# Altium integrated library Infineon RF & Wireless Control.IntLib: 329 symbols (part 6 of 11)
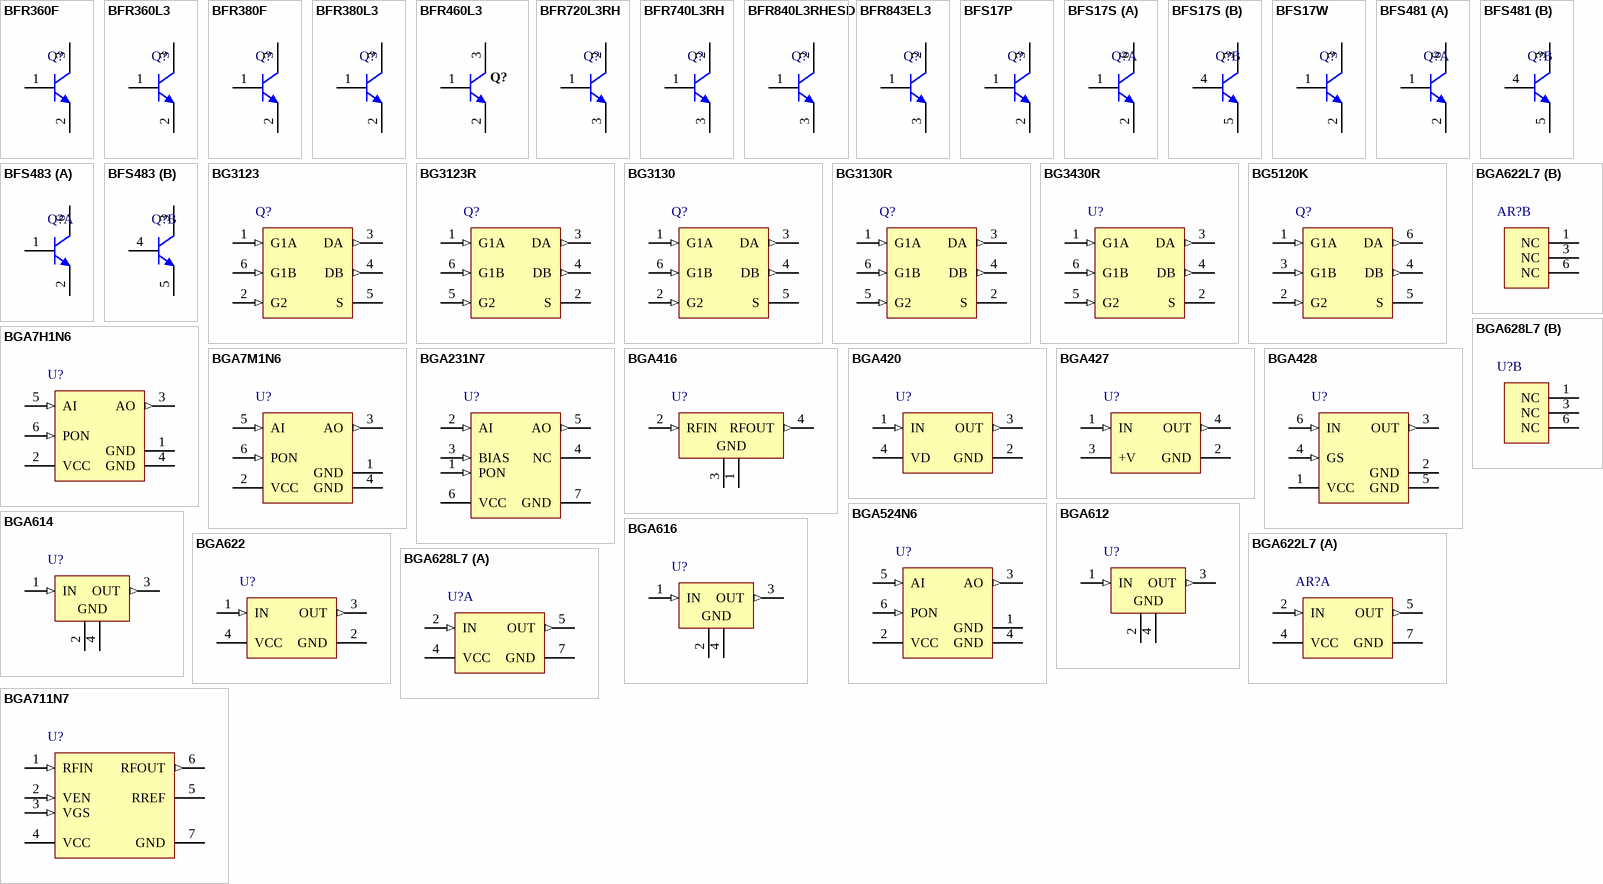
[diagram p14: symbols BFR360F to BGA711N7]

## BFR360F
designator Q?
NPN Silicon RF Transistor, TSFP-3-1, Reel, Green; Manufacturer: Infineon; PartNumber: BFR360F; Green: TRUE; VCEO (max): 6 V; PackageReference: TSFP-3-1; PackageDescription: 3-Pin Thin Small Flat Package, 0.8 x 1.2 mm Body, 0.4 mm Pitch; Supplier 1: Mouser; Supplier Part Number 1: N/A; Halogen-free: TRUE; Mounting Technology: Surface Mount; ComponentLink1Description: Manufacturer URL; ComponentLink1URL: http://www.infineon.com/; ComponentLink2Description: Datasheet; ComponentLink2URL: http://www.infineon.com/dgdl/bfr360f.pdf?folderId=db3a30431400ef68011425b1354605c1&fileId=db3a30431400ef68011426bc17c4067f&location=en.Products.RF.RF_Transistors_.Low_Noise_Si_Transistors_up_to_2_5_GHz.DATASHEET.bfr360f.pdf; ComponentLink3Description: Package Specification; ComponentLink3URL: http://www.infineon.com/dgdl/TSFP-3-1%2C-2-Package_Overview.pdf?folderId=db3a30431936bc4b0119538cdcb03d2d&fileId=db3a30431936bc4b0119539929863d46
footprint INF-TSFP-3-1_N (SOT23, 3-Leads, Body 1.2x0.8 mm, Pitch 0.4 mm, IPC Medium Density)
footprint INF-TSFP-3-1_L (SOT23, 3-Leads, Body 1.2x0.8 mm, Pitch 0.4 mm, IPC High Density)
footprint INF-TSFP-3-1_M (SOT23, 3-Leads, Body 1.2x0.8 mm, Pitch 0.4 mm, IPC Low Density)
pins: 1 B, 2 E, 3 C

## BFR360L3
designator Q?
NPN Silicon RF Transistor, 6 V VCEO, 35 mA IC, 16 dB Gmax, TSLP-3-1, Green; Manufacturer: Infineon; PartNumber: BFR360L3; Gmax (typ): 16 dB; Green: yes; Group: High gain up to 2.5 GHz, flatlead TSFP package respectively TSLP package for modules; IC (max): 35 mA; NFmin (typ): 1 dB; Ptot (max): 210 mW; VCEO (max): 6 V; DatasheetVersion: Mar-2007; PackageReference: TSLP-3-1; PackageDescription: 3-Pin Thin Small Leadless Package, 0.6 x 1 mm Body; Supplier 1: Mouser; Supplier Part Number 1: N/A; Halogen-free: yes; Mounting Technology: Surface Mount; ComponentLink1Description: Manufacturer URL; ComponentLink1URL: http://www.infineon.com/; ComponentLink2Description: Datasheet; ComponentLink2URL: http://www.infineon.com/dgdl/bfr360l3.pdf?folderId=db3a30431400ef68011425b2dfaf05c6&fileId=db3a30431400ef6801142724646906e4&location=en.Products.RF.RF_Transistors_.Low_Noise_Si_Transistors_up_to_2_5_GHz.DATASHEET.bfr360l3.pdf; ComponentLink3Description: Package Specification; ComponentLink3URL: http://www.infineon.com/dgdl/TSLP-3-1-Package_Overview.pdf?folderId=db3a30431936bc4b011957434db737d2&fileId=db3a30431936bc4b0119577ed2783818
footprint INF-TSLP-3-1_V (TSLP, 3-Leads, Body 0.6x1 mm)
pins: 1 B, 2 E, 3 C

## BFR380F
designator Q?
NPN Silicon RF Transistor, 6 V VCEO, 80 mA IC, 13.5 dB Gmax, TSFP-3-1, Green; Manufacturer: Infineon; PartNumber: BFR380F; Gmax (typ): 13.5 dB; Green: yes; Group: Si transistors with high gain up to 2.5 GHz; IC (max): 80 mA; NFmin (typ): 1.1 dB; Ptot (max): 380.0 mW; VCEO (max): 6 V; DatasheetVersion: Sep-2010; PackageReference: TSFP-3-1; PackageDescription: 3-Pin Thin Small Flat Package, 0.8 x 1.2 mm Body, 0.4 mm Pitch; Supplier 1: Mouser; Supplier Part Number 1: N/A; Halogen-free: yes; Mounting Technology: Surface Mount; ComponentLink1Description: Manufacturer URL; ComponentLink1URL: http://www.infineon.com/; ComponentLink2Description: Datasheet; ComponentLink2URL: http://www.infineon.com/dgdl/bfr380f.pdf?folderId=db3a30431400ef68011425b1354605c1&fileId=db3a30431400ef68011426c34e340686&location=en.Products.RF.RF_Transistors_.High_Linearity_Si-_and_SiGe_C-Transistors_for_use_up_to_6_GHz.DATASHEET.bfr380f.pdf; ComponentLink3Description: Package Specification; ComponentLink3URL: http://www.infineon.com/dgdl/TSSFP-3-1-Package_Overview.pdf?folderId=db3a30431936bc4b011953c8310c373d&fileId=db3a30431936bc4b011953d3a42e3756
footprint INF-TSFP-3-1_N (SOT23, 3-Leads, Body 1.2x0.8 mm, Pitch 0.4 mm, IPC Medium Density)
footprint INF-TSFP-3-1_L (SOT23, 3-Leads, Body 1.2x0.8 mm, Pitch 0.4 mm, IPC High Density)
footprint INF-TSFP-3-1_M (SOT23, 3-Leads, Body 1.2x0.8 mm, Pitch 0.4 mm, IPC Low Density)
pins: 1 B, 2 E, 3 C

## BFR380L3
designator Q?
NPN Silicon RF Transistor, 6 V VCEO, 80 mA IC, 13.5 dB Gmax, TSLP-3-1, Green; Manufacturer: Infineon; PartNumber: BFR380L3; Gmax (typ): 13.5 dB; Green: yes; Group: Si transistors with high gain up to 2.5 GHz; IC (max): 80 mA; NFmin (typ): 1.1 dB; Ptot (max): 380.0 mW; VCEO (max): 6 V; DatasheetVersion: ########; PackageReference: TSLP-3-1; PackageDescription: 3-Pin Thin Small Leadless Package, 0.6 x 1 mm Body; Supplier 1: Mouser; Supplier Part Number 1: N/A; Halogen-free: yes; Mounting Technology: Surface Mount; ComponentLink1Description: Manufacturer URL; ComponentLink1URL: http://www.infineon.com/; ComponentLink2Description: Datasheet; ComponentLink2URL: http://www.infineon.com/dgdl/bfr380l3.pdf?folderId=db3a30431400ef68011425b2dfaf05c6&fileId=db3a30431400ef6801142725593e06e5&location=en.Products.RF.RF_Transistors_.High_Linearity_Si-_and_SiGe_C-Transistors_for_use_up_to_6_GHz.DATASHEET.bfr380l3.pdf; ComponentLink3Description: Package Specification; ComponentLink3URL: http://www.infineon.com/dgdl/TSLP-3-1-Package_Overview.pdf?folderId=db3a30431936bc4b011957434db737d2&fileId=db3a30431936bc4b0119577ed2783818
footprint INF-TSLP-3-1_V (TSLP, 3-Leads, Body 0.6x1 mm)
pins: 1 B, 2 E, 3 C

## BFR460L3
designator Q?
NPN Silicon RF Transistor, 4.5 V VCEO, 50 mA IC, 16 dB Gmax, TSLP-3-1, Green; Manufacturer: Infineon; PartNumber: BFR460L3; Gmax (typ): 16 dB; Green: yes; Group: For Modules in TSLP-package; IC (max): 50 mA; NFmin (typ): 1.1 dB; Ptot (max): 200 mW; VCEO (max): 4.5 V; DatasheetVersion: Aug-2008; PackageReference: TSLP-3-1; PackageDescription: 3-Pin Thin Small Leadless Package, 0.6 x 1 mm Body; Supplier 1: Mouser; Supplier Part Number 1: N/A; Halogen-free: yes; Mounting Technology: Surface Mount; ComponentLink1Description: Manufacturer URL; ComponentLink1URL: http://www.infineon.com/; ComponentLink2Description: Datasheet; ComponentLink2URL: http://www.infineon.com/dgdl/bfr460l3.pdf?folderId=db3a30431400ef68011425b2dfaf05c6&fileId=db3a30431400ef680114271ab45806d6&location=en.Products.RF.RF_Transistors_.Low_Noise_Si_Transistors_up_to_5_GHz_.DATASHEET.bfr460l3.pdf; ComponentLink3Description: Package Specification; ComponentLink3URL: http://www.infineon.com/dgdl/TSLP-3-1-Package_Overview.pdf?folderId=db3a30431936bc4b011957434db737d2&fileId=db3a30431936bc4b0119577ed2783818
footprint INF-TSLP-3-1_V (TSLP, 3-Leads, Body 0.6x1 mm)
pins: 1 B, 2 E, 3 C

## BFR720L3RH
designator Q?
NPN Silicon Germanium RF Transistor, 4 V VCEO, 20 mA IC, 24 dB Gmax, TSLP-3-9, Green; Manufacturer: Infineon; PartNumber: BFR720L3RH; Gmax (typ): 24 dB; Green: yes; Group: For Modules in TSLP-package; IC (max): 20 mA; NFmin (typ): 0.5 dB; Ptot (max): 80 mW; VCEO (max): 4 V; DatasheetVersion: Rev. 2.0; PackageReference: TSLP-3-9; PackageDescription: 3-Pin Thin Small Leadless Package, 0.6 x 1 mm Body; Halogen-free: yes; Mounting Technology: Surface Mount; ComponentLink1Description: Manufacturer URL; ComponentLink1URL: http://www.infineon.com/; ComponentLink2Description: Datasheet; ComponentLink2URL: http://www.infineon.com/dgdl/bfr720l3rh_target.pdf?folderId=db3a30431400ef68011425b291f205c5&fileId=db3a30431ddc9372011e2677fc1e4740&location=en.Products.RF.RF_Transistors_.Ultra_Low_Noise_SiGe_C_Transistors_for_use_up_to_12_GHz.DATASHEET.bfr720l3rh_target.pdf; ComponentLink3Description: Package Specification; ComponentLink3URL: http://www.infineon.com/dgdl/TSLP-3-9-Package_Overview.pdf?folderId=db3a304319bc939a0119becdb18f008a&fileId=db3a304319bc939a0119bedef5a600a3
footprint INF-TSLP-3-9_V (TSLP, 3-Leads, Body 1x0.6 mm)
pins: 1 B, 2 C, 3 E

## BFR740L3RH
designator Q?
NPN Silicon Germanium RF Transistor, 4 V VCEO, 30 mA IC, 24.5 dB Gmax, TSLP-3-9, Green; Manufacturer: Infineon; PartNumber: BFR740L3RH; Gmax (typ): 24.5 dB; Green: yes; Group: For Modules in TSLP-package; IC (max): 30 mA; NFmin (typ): 0.5 dB; Ptot (max): 160 mW; VCEO (max): 4 V; DatasheetVersion: Rev. 2.0; PackageReference: TSLP-3-9; PackageDescription: 3-Pin Thin Small Leadless Package, 0.6 x 1 mm Body; Supplier 1: Mouser; Supplier Part Number 1: N/A; Halogen-free: yes; Mounting Technology: Surface Mount; ComponentLink1Description: Manufacturer URL; ComponentLink1URL: http://www.infineon.com/; ComponentLink2Description: Datasheet; ComponentLink2URL: http://www.infineon.com/dgdl/bfr740l3rh.pdf?folderId=db3a30431400ef68011425b291f205c5&fileId=db3a30431400ef680114273ae8030703&location=en.Products.RF.RF_Transistors_.Ultra_Low_Noise_SiGe_C_Transistors_for_use_up_to_12_GHz.DATASHEET.bfr740l3rh.pdf; ComponentLink3Description: Package Specification; ComponentLink3URL: http://www.infineon.com/dgdl/TSLP-3-9-Package_Overview.pdf?folderId=db3a304319bc939a0119becdb18f008a&fileId=db3a304319bc939a0119bedef5a600a3
footprint INF-TSLP-3-9_V (TSLP, 3-Leads, Body 1x0.6 mm)
pins: 1 B, 2 C, 3 E

## BFR840L3RHESD
designator Q?
Robust low noise Silicon Germanium Bipolar RF Transistor, 2.25 V VCEO, 35 mA IC, 31 dB Gmax, TSLP-3-9, Green; Manufacturer: Infineon; PartNumber: BFR840L3RHESD; Gmax (typ): 31 dB; Green: yes; Group: For Modules in TSLP-package; IC (max): 35 mA; NFmin (typ): 0.5 dB; Ptot (max): 75.0 mW; VCEO (max): 2.25 V; DatasheetVersion: Rev. 1.1; PackageReference: TSLP-3-9; PackageDescription: 3-Pin Thin Small Leadless Package, 0.6 x 1 mm Body; Halogen-free: yes; Mounting Technology: Surface Mount; ComponentLink1Description: Manufacturer URL; ComponentLink1URL: http://www.infineon.com/; ComponentLink2Description: Datasheet; ComponentLink2URL: http://www.infineon.com/dgdl/Infineon_Robust_WiFi_SiGe_LNA_BFR840L3RHESD_Rev1_1.pdf?folderId=db3a30431f848401011fcbf2ab4c04c4&fileId=db3a304336ca04c90136e89340a135c4&location=en.Products.RF.RF_Transistors_.Ultra_Low_Noise_SiGe_C_Transistors_for_use_up_to_12_GHz.DATASHEET.Infineon_Robust_WiFi_SiGe_LNA_BFR840L3RHESD_Rev1_1.pdf; ComponentLink3Description: Package Specification; ComponentLink3URL: http://www.infineon.com/dgdl/TSLP-3-9-Package_Overview.pdf?folderId=db3a304319bc939a0119becdb18f008a&fileId=db3a304319bc939a0119bedef5a600a3
footprint INF-TSLP-3-9_V (TSLP, 3-Leads, Body 1x0.6 mm)
pins: 1 B, 2 C, 3 E

## BFR843EL3
designator Q?
Robust Low Noise Broadband Pre-Matched Bipolar RF Transistor, 55 mA IC, 2.25 V VCEO, TSLP-3, Reel, Green; Manufacturer: Infineon; PartNumber: BFR843EL3; Gmax (typ): 24 dB; Green: TRUE; IC(max): 55 mA; NFmin (typ): 1 dB; OIP3: 21 dBm; VCEO (max): 2.25 V; DatasheetVersion: Rev. 1.0; PackageReference: TSLP-3-9; PackageDescription: 3-Pin Thin Small Leadless Package, 0.6 x 1 mm Body; Halogen-free: TRUE; Packing: Reel; Mounting Technology: Surface Mount; ComponentLink1Description: Manufacturer URL; ComponentLink1URL: http://www.infineon.com/; ComponentLink2Description: Datasheet; ComponentLink2URL: http://www.infineon.com/dgdl/Infineon_Robust_SiGe_WiFi_WLAN_Prematched_Broadband_LNA_BFR843EL3+Rev.+1.0.pdf?folderId=db3a30431f848401011fcbf2ab4c04c4&fileId=db3a30433f9a93b7013f9f3e7fec1f9b; ComponentLink3Description: Package Specification; ComponentLink3URL: http://www.infineon.com/dgdl/TSLP-3-9-Package_Overview.pdf?folderId=db3a304319bc939a0119becdb18f008a&fileId=db3a304319bc939a0119bedef5a600a3
footprint INF-TSLP-3-9_V (TSLP, 3-Leads, Body 1x0.6 mm)
pins: 1 B, 2 C, 3 E

## BFS17P
designator Q?
NPN Silicon RF Transistor, 15 V VCEO, 25 mA IC, SOT23, Green; Manufacturer: Infineon; PartNumber: BFS17P; Green: yes; Group: For low frequencies e.g. VHF/UHF; IC (max): 25 mA; NFmin (typ): 3.5 dB; Ptot (max): 280mW; VCEO (max): 15 V; DatasheetVersion: Jul-2011; PackageReference: SOT23; PackageDescription: 3-Pin Small Outline Transistor Package, 1.3 x 2.9 mm Body, 0.95 mm Pitch; Supplier 1: Mouser; Supplier Part Number 1: N/A; Supplier 2: Newark; Supplier Part Number 2: 24M0744; Supplier 3: Farnell; Supplier Part Number 3: 1056522; Supplier 4: Farnell; Supplier Part Number 4: 1056522RL; Mounting Technology: Surface Mount; ComponentLink1Description: Manufacturer URL; ComponentLink1URL: http://www.infineon.com/; ComponentLink2Description: Datasheet; ComponentLink2URL: http://www.infineon.com/dgdl/bfs17p.pdf?folderId=db3a30431400ef68011425b1354605c1&fileId=db3a30431400ef6801142707fafd06b5&location=en.Products.RF.RF_Transistors_.Low_Noise_Si_Transistors_up_to_2_5_GHz.DATASHEET.bfs17p.pdf; ComponentLink3Description: Package Specification; ComponentLink3URL: http://www.infineon.com/dgdl/SOT23-Package_Overview.pdf?folderId=db3a30431936bc4b0119532290053c66&fileId=db3a30431936bc4b0119533468123c85
footprint INF-SOT23_N (SOT23, 3-Leads, Body 2.9x1.3 mm, Pitch 0.95 mm, IPC Medium Density)
footprint INF-SOT23_L (SOT23, 3-Leads, Body 2.9x1.3 mm, Pitch 0.95 mm, IPC High Density)
footprint INF-SOT23_M (SOT23, 3-Leads, Body 2.9x1.3 mm, Pitch 0.95 mm, IPC Low Density)
pins: 1 B, 2 E, 3 C

## BFS17S
designator Q?
NPN Silicon RF Transistor, 15 V VCEO, 25 mA IC, 12.7 dB Gmax, SOT363, Green; Manufacturer: Infineon; PartNumber: BFS17S; Gmax (typ): 12.7 dB; Green: yes; Group: For low frequencies e.g. VHF/UHF; IC (max): 25 mA; NFmin (typ): 3 dB; Ptot (max): 280mW; VCEO (max): 15 V; DatasheetVersion: Jul-2011; PackageReference: SOT363; PackageDescription: 6-Pin Small Outline Transistor Package, 1.25 x 2 mm Body; Supplier 1: Mouser; Supplier Part Number 1: N/A; Halogen-free: yes; Mounting Technology: Surface Mount; ComponentLink1Description: Manufacturer URL; ComponentLink1URL: http://www.infineon.com/; ComponentLink2Description: Datasheet; ComponentLink2URL: http://www.infineon.com/dgdl/bfs17s.pdf?folderId=db3a30431400ef68011425b1354605c1&fileId=db3a30431400ef6801142709577b06b6&location=en.Products.RF.RF_Transistors_.Low_Noise_Si_Transistors_up_to_2_5_GHz.DATASHEET.bfs17s.pdf; ComponentLink3Description: Package Specification; ComponentLink3URL: http://www.infineon.com/dgdl/SOT363-Package_Overview.pdf?folderId=db3a30431936bc4b01195360bd8f3cdc&fileId=db3a30431936bc4b0119536b62bf3cf5
footprint INF-SOT363_V (SOT23, 6-Leads, Body 2x1.25 mm, Pitch 0.65 mm)
part A pins: 1 B1, 2 E1, 6 C1
part B pins: 3 C2, 4 B2, 5 E2

## BFS17W
designator Q?
NPN Silicon RF Transistor, 15 V VCEO, 25 mA IC, 12.7 dB Gmax, SOT323, Green; Manufacturer: Infineon; PartNumber: BFS17W; Gmax (typ): 12.7 dB; Green: yes; Group: For low frequencies e.g. VHF/UHF; IC (max): 25 mA; NFmin (typ): 3.5 dB; Ptot (max): 280mW; VCEO (max): 15 V; DatasheetVersion: Jul-2011; PackageReference: SOT323; PackageDescription: 3-Pin Small Outline Transistor Package, 1.25 x 2 mm Body, 0.65 mm Pitch; Halogen-free: yes; Mounting Technology: Surface Mount; ComponentLink1Description: Manufacturer URL; ComponentLink1URL: http://www.infineon.com/; ComponentLink2Description: Datasheet; ComponentLink2URL: http://www.infineon.com/dgdl/bfs17w.pdf?folderId=db3a30431400ef68011425b1354605c1&fileId=db3a30431400ef680114270c42a906bd&location=en.Products.RF.RF_Transistors_.Low_Noise_Si_Transistors_up_to_2_5_GHz.DATASHEET.bfs17w.pdf; ComponentLink3Description: Package Specification; ComponentLink3URL: http://www.infineon.com/dgdl/SOT323-Package_Overview.pdf?folderId=db3a30431936bc4b0119533e1dcb3c92&fileId=db3a30431936bc4b011953495f283cb1
footprint INF-SOT323_N (SOT23, 3-Leads, Body 2x1.25 mm, Pitch 0.65 mm, IPC Medium Density)
footprint INF-SOT323_L (SOT23, 3-Leads, Body 2x1.25 mm, Pitch 0.65 mm, IPC High Density)
footprint INF-SOT323_M (SOT23, 3-Leads, Body 2x1.25 mm, Pitch 0.65 mm, IPC Low Density)
pins: 1 B, 2 E, 3 C

## BFS481
designator Q?
NPN Silicon RF Transistor, 12 V VCEO, 20 mA IC, 20 dB Gmax, SOT363, Green; Manufacturer: Infineon; PartNumber: BFS481; Gmax (typ): 20 dB; Green: yes; Group: For low frequencies e.g. VHF/UHF; IC (max): 20 mA; NFmin (typ): 0.9 dB; Ptot (max): 175 mW; VCEO (max): 12 V; DatasheetVersion: Apr-2007; PackageReference: SOT363; PackageDescription: 6-Pin Small Outline Transistor Package, 1.25 x 2 mm Body; Supplier 1: Mouser; Supplier Part Number 1: N/A; Halogen-free: yes; Mounting Technology: Surface Mount; ComponentLink1Description: Manufacturer URL; ComponentLink1URL: http://www.infineon.com/; ComponentLink2Description: Datasheet; ComponentLink2URL: http://www.infineon.com/dgdl/bfs481.pdf?folderId=db3a30431400ef68011425b1354605c1&fileId=db3a30431400ef680114270d383406be&location=en.Products.RF.RF_Transistors_.Low_Noise_Si_Transistors_up_to_2_5_GHz.DATASHEET.bfs481.pdf; ComponentLink3Description: Package Specification; ComponentLink3URL: http://www.infineon.com/dgdl/SOT363-Package_Overview.pdf?folderId=db3a30431936bc4b01195360bd8f3cdc&fileId=db3a30431936bc4b0119536b62bf3cf5
footprint INF-SOT363_V (SOT23, 6-Leads, Body 2x1.25 mm, Pitch 0.65 mm)
part A pins: 1 B1, 2 E1, 6 C1
part B pins: 3 C2, 4 B2, 5 E2

## BFS483
designator Q?
NPN Silicon RF Transistor, 12 V VCEO, 65 mA IC, 19 dB Gmax, SOT363, Green; Manufacturer: Infineon; PartNumber: BFS483; Gmax (typ): 19 dB; Green: yes; Group: For low frequencies e.g. VHF/UHF; IC (max): 65 mA; NFmin (typ): 0.9 dB; Ptot (max): 450 mW; VCEO (max): 12 V; DatasheetVersion: Apr-2007; PackageReference: SOT363; PackageDescription: 6-Pin Small Outline Transistor Package, 1.25 x 2 mm Body; Supplier 1: Mouser; Supplier Part Number 1: N/A; Halogen-free: yes; Mounting Technology: Surface Mount; ComponentLink1Description: Manufacturer URL; ComponentLink1URL: http://www.infineon.com/; ComponentLink2Description: Datasheet; ComponentLink2URL: http://www.infineon.com/dgdl/bfs483.pdf?folderId=db3a30431400ef68011425b1354605c1&fileId=db3a30431400ef6801142710876006c5&location=en.Products.RF.RF_Transistors_.Low_Noise_Si_Transistors_up_to_2_5_GHz.DATASHEET.bfs483.pdf; ComponentLink3Description: Package Specification; ComponentLink3URL: http://www.infineon.com/dgdl/SOT363-Package_Overview.pdf?folderId=db3a30431936bc4b01195360bd8f3cdc&fileId=db3a30431936bc4b0119536b62bf3cf5
footprint INF-SOT363_V (SOT23, 6-Leads, Body 2x1.25 mm, Pitch 0.65 mm)
part A pins: 1 B1, 2 E1, 6 C1
part B pins: 3 C2, 4 B2, 5 E2

## BG3123
designator Q?
Dual N-Channel MOSFET Tetrode, 25 mA ID, 25 dB Gp, SOT363, Green; Manufacturer: Infineon; PartNumber: BG3123; F (typ): 1.3 dB; gfs (typ): 30 mS; Gp (typ): 25 dB; Green: yes; ID (max): 25 mA; Ptot (max): 200 mW; DatasheetVersion: Apr-2007; PackageReference: SOT363; PackageDescription: 6-Pin Small Outline Transistor Package, 1.25 x 2 mm Body; Supplier 1: Mouser; Supplier Part Number 1: N/A; Halogen-free: yes; Mounting Technology: Surface Mount; ComponentLink1Description: Manufacturer URL; ComponentLink1URL: http://www.infineon.com/; ComponentLink2Description: Datasheet; ComponentLink2URL: http://www.infineon.com/dgdl/bg3123_bg3123r.pdf?folderId=db3a304313b8b5a60113d40aedbb0406&fileId=db3a30431a5c32f2011ad9670b416403&location=en.Products.RF.RF_MOSFET.Dual_Semi_Biased.DATASHEET.bg3123_bg3123r.pdf; ComponentLink3Description: Package Specification; ComponentLink3URL: http://www.infineon.com/dgdl/SOT363-Package_Overview.pdf?folderId=db3a30431936bc4b01195360bd8f3cdc&fileId=db3a30431936bc4b0119536b62bf3cf5
footprint INF-SOT363_V (SOT23, 6-Leads, Body 2x1.25 mm, Pitch 0.65 mm)
pins: 1 G1A (in), 2 G2 (in), 3 DA (out), 4 DB (out), 5 S (power), 6 G1B (in)

## BG3123R
designator Q?
Dual N-Channel MOSFET Tetrode, 25 mA ID, 25 dB Gp, SOT363, Green; Manufacturer: Infineon; PartNumber: BG3123R; F (typ): 1.3 dB; gfs (typ): 30 mS; Gp (typ): 25 dB; Green: yes; ID (max): 25 mA; Ptot (max): 200 mW; DatasheetVersion: Apr-2007; PackageReference: SOT363; PackageDescription: 6-Pin Small Outline Transistor Package, 1.25 x 2 mm Body; Supplier 1: Mouser; Supplier Part Number 1: N/A; Halogen-free: yes; Mounting Technology: Surface Mount; ComponentLink1Description: Manufacturer URL; ComponentLink1URL: http://www.infineon.com/; ComponentLink2Description: Datasheet; ComponentLink2URL: http://www.infineon.com/dgdl/bg3123_bg3123r.pdf?folderId=db3a304313b8b5a60113d40aedbb0406&fileId=db3a30431a5c32f2011ad9670b416403&location=en.Products.RF.RF_MOSFET.Dual_Semi_Biased.DATASHEET.bg3123_bg3123r.pdf; ComponentLink3Description: Package Specification; ComponentLink3URL: http://www.infineon.com/dgdl/SOT363-Package_Overview.pdf?folderId=db3a30431936bc4b01195360bd8f3cdc&fileId=db3a30431936bc4b0119536b62bf3cf5
footprint INF-SOT363_V (SOT23, 6-Leads, Body 2x1.25 mm, Pitch 0.65 mm)
pins: 1 G1A (in), 2 S (power), 3 DA (out), 4 DB (out), 5 G2 (in), 6 G1B (in)

## BG3130
designator Q?
Dual N-Channel MOSFET Tetrode, 25 mA ID, 24 dB Gp, SOT363, Green; Manufacturer: Infineon; PartNumber: BG3130; F (typ): 1.3 dB; gfs (typ): 33 mS; Gp (typ): 24 dB; Green: yes; ID (max): 25 mA; Ptot (max): 200 mW; DatasheetVersion: Jun-2007; PackageReference: SOT363; PackageDescription: 6-Pin Small Outline Transistor Package, 1.25 x 2 mm Body; Supplier 1: Mouser; Supplier Part Number 1: N/A; Halogen-free: yes; Mounting Technology: Surface Mount; ComponentLink1Description: Manufacturer URL; ComponentLink1URL: http://www.infineon.com/; ComponentLink2Description: Datasheet; ComponentLink2URL: http://www.infineon.com/dgdl/bg3130_bg3130r.pdf?folderId=db3a304313b8b5a60113d40aedbb0406&fileId=db3a30431a5c32f2011ad96f1cd56408&location=en.Products.RF.RF_MOSFET.Dual_Semi_Biased.DATASHEET.bg3130_bg3130r.pdf; ComponentLink3Description: Package Specification; ComponentLink3URL: http://www.infineon.com/dgdl/SOT363-Package_Overview.pdf?folderId=db3a30431936bc4b01195360bd8f3cdc&fileId=db3a30431936bc4b0119536b62bf3cf5
footprint INF-SOT363_V (SOT23, 6-Leads, Body 2x1.25 mm, Pitch 0.65 mm)
pins: 1 G1A (in), 2 G2 (in), 3 DA (out), 4 DB (out), 5 S (power), 6 G1B (in)

## BG3130R
designator Q?
Dual N-Channel MOSFET Tetrode, 25 mA ID, 24 dB Gp, SOT363, Green; Manufacturer: Infineon; PartNumber: BG3130R; F (typ): 1.3 dB; gfs (typ): 33 mS; Gp (typ): 24 dB; Green: yes; ID (max): 25 mA; Ptot (max): 200 mW; DatasheetVersion: Jun-2007; PackageReference: SOT363; PackageDescription: 6-Pin Small Outline Transistor Package, 1.25 x 2 mm Body; Supplier 1: Mouser; Supplier Part Number 1: N/A; Halogen-free: yes; Mounting Technology: Surface Mount; ComponentLink1Description: Manufacturer URL; ComponentLink1URL: http://www.infineon.com/; ComponentLink2Description: Datasheet; ComponentLink2URL: http://www.infineon.com/dgdl/bg3130_bg3130r.pdf?folderId=db3a304313b8b5a60113d40aedbb0406&fileId=db3a30431a5c32f2011ad96f1cd56408&location=en.Products.RF.RF_MOSFET.Dual_Semi_Biased.DATASHEET.bg3130_bg3130r.pdf; ComponentLink3Description: Package Specification; ComponentLink3URL: http://www.infineon.com/dgdl/SOT363-Package_Overview.pdf?folderId=db3a30431936bc4b01195360bd8f3cdc&fileId=db3a30431936bc4b0119536b62bf3cf5
footprint INF-SOT363_V (SOT23, 6-Leads, Body 2x1.25 mm, Pitch 0.65 mm)
pins: 1 G1A (in), 2 S (power), 3 DA (out), 4 DB (out), 5 G2 (in), 6 G1B (in)

## BG3430R
designator U?
Dual N-Channel MOSFET Tetrode, 25 mA ID, 25 dB Gp, SOT363, Green; Manufacturer: Infineon; PartNumber: BG3430R; F (typ): 1.3 dB; gfs (typ): 33 mS; Gp (typ): 25 dB; Green: yes; ID (max): 25 mA; Ptot (max): 200 mW; DatasheetVersion: Oct-2009; PackageReference: SOT363; PackageDescription: 6-Pin Small Outline Transistor Package, 1.25 x 2 mm Body; Supplier 1: Mouser; Supplier Part Number 1: N/A; Halogen-free: yes; Mounting Technology: Surface Mount; ComponentLink1Description: Manufacturer URL; ComponentLink1URL: http://www.infineon.com/; ComponentLink2Description: Datasheet; ComponentLink2URL: http://www.infineon.com/dgdl/bg3430r.pdf?folderId=db3a30431400ef68011426e80dd80693&fileId=db3a30431400ef68011426e938d50694&location=en.Products.RF.RF_MOSFET.Dual_Intelligent_Switching.DATASHEET.bg3430r.pdf; ComponentLink3Description: Package Specification; ComponentLink3URL: http://www.infineon.com/dgdl/SOT363-Package_Overview.pdf?folderId=db3a30431936bc4b01195360bd8f3cdc&fileId=db3a30431936bc4b0119536b62bf3cf5
footprint INF-SOT363_V (SOT23, 6-Leads, Body 2x1.25 mm, Pitch 0.65 mm)
pins: 1 G1A (in), 2 S (power), 3 DA (out), 4 DB (out), 5 G2 (in), 6 G1B (in)

## BG5120K
designator Q?
Dual N-Channel MOSFET Tetrode, 20 mA ID, 24 dB Gp, SOT363, Green; Manufacturer: Infineon; PartNumber: BG5120K; F (typ): 1.2 dB; gfs (typ): 33 mS; Gp (typ): 24 dB; Green: yes; ID (max): 20 mA; Ptot (max): 200 mW; DatasheetVersion: Oct-2009; PackageReference: SOT363; PackageDescription: 6-Pin Small Outline Transistor Package, 1.25 x 2 mm Body; Supplier 1: Mouser; Supplier Part Number 1: N/A; Halogen-free: yes; Mounting Technology: Surface Mount; ComponentLink1Description: Manufacturer URL; ComponentLink1URL: http://www.infineon.com/; ComponentLink2Description: Datasheet; ComponentLink2URL: http://www.infineon.com/dgdl/bg5120k.pdf?folderId=db3a304313b8b5a60113d40b13ca0407&fileId=db3a30431441fb5d0114b5a58190167d&location=en.Products.RF.RF_MOSFET.Dual_Semi_Biased.DATASHEET.bg5120k.pdf; ComponentLink3Description: Package Specification; ComponentLink3URL: http://www.infineon.com/dgdl/SOT363-Package_Overview.pdf?folderId=db3a30431936bc4b01195360bd8f3cdc&fileId=db3a30431936bc4b0119536b62bf3cf5
footprint INF-SOT363_V (SOT23, 6-Leads, Body 2x1.25 mm, Pitch 0.65 mm)
pins: 1 G1A (in), 2 G2 (in), 3 G1B (in), 4 DB (out), 5 S (power), 6 DA (out)

## BGA7H1N6
designator U?
Silicon Germanium Low Noise Amplifier for LTE, 12.5 dB Gain, -40 to 85 degC, TSNP-6, Reel, Green; Manufacturer: Infineon; PartNumber: BGA7H1N6; Frequency: 2300 - 2690 MHz; Gain (typ): 12.5 dB; Green: TRUE; I (typ): 4.7 mA; DatasheetVersion: Rev. 3.1; PackageVersion: Jan-13; PackageReference: TSNP-6-2; PackageDescription: 6-Pin Thin Small Non Leaded Package, 1.1 x 0.7 mm Body, 0.4 mm Pitch; Supplier 1: Mouser; Supplier Part Number 1: N/A; Packing: Reel; Mounting Technology: Surface Mount; ComponentLink1Description: Manufacturer URL; ComponentLink1URL: http://www.infineon.com/; ComponentLink2Description: Datasheet; ComponentLink2URL: http://www.infineon.com/dgdl/BGA7H1N6_final_31.pdf?folderId=db3a30431f848401011fcbf2ab4c04c4&fileId=db3a304344e406b50144e45ad9af02ca; ComponentLink3Description: Package Specification; ComponentLink3URL: http://www.infineon.com/dgdl/TSNP-6-2-Package_Overview.pdf?folderId=db3a304327b89750012805e1379a6124&fileId=db3a30433c6612b1013c6bcb02293ba1
footprint INF-TSNP-6-2_V (TSNP, 6-Leads, Body 1.1x0.7mm, Pitch 0.4mm)
pins: 1 GND (power) "Ground", 2 VCC (power) "DC supply", 3 AO (out) "LNA output", 4 GND (power) "Ground", 5 AI (in) "LNA input", 6 PON (in) "Power on control"

## BGA7M1N6
designator U?
Silicon Germanium Low Noise Amplifier for LTE, 13 dB Gain, -40 to 85 degC, TSNP-6, Reel, Green; Manufacturer: Infineon; PartNumber: BGA7M1N6; Frequency: 1805 - 2200 MHz; Gain (typ): 13 dB; Green: TRUE; I (typ): 4.4 mA; P-1dB (in): 0; DatasheetVersion: Rev. 3.1; PackageVersion: Jan-13; PackageReference: TSNP-6-2; PackageDescription: 6-Pin Thin Small Non Leaded Package, 1.1 x 0.7 mm Body, 0.4 mm Pitch; Supplier 1: Mouser; Supplier Part Number 1: N/A; Halogen-free: TRUE; Packing: Reel; Mounting Technology: Surface Mount; ComponentLink1Description: Manufacturer URL; ComponentLink1URL: http://www.infineon.com/; ComponentLink2Description: Datasheet; ComponentLink2URL: http://www.infineon.com/dgdl/BGA7M1N6_final_31.pdf?folderId=db3a30431f848401011fcbf2ab4c04c4&fileId=db3a304344e406b50144e46550b502d7; ComponentLink3Description: Package Specification; ComponentLink3URL: http://www.infineon.com/dgdl/TSNP-6-2-Package_Overview.pdf?folderId=db3a304327b89750012805e1379a6124&fileId=db3a30433c6612b1013c6bcb02293ba1
footprint INF-TSNP-6-2_V (TSNP, 6-Leads, Body 1.1x0.7mm, Pitch 0.4mm)
pins: 1 GND (power) "Ground", 2 VCC (power) "DC supply", 3 AO (out) "LNA output", 4 GND (power) "Ground", 5 AI (in) "LNA input", 6 PON (in) "Power on control"

## BGA231N7
designator U?
Silicon Germanium Low Noise Amplifier for Global Navigation Satellite Systems (GNSS), -40 to 85 degC, TSNP-7, Reel, Green; Manufacturer: Infineon; PartNumber: BGA231N7; F (typ): 0.75 dB; Frequency: 1550 to 1615 MHz; Gain (typ): 16 dB; Green: TRUE; I (typ): 4.4 mA; P-1dB (in): -5; DatasheetVersion: Rev. 1.0; PackageVersion: Sep-12; PackageReference: TSNP-7-1; PackageDescription: 7-Pin Thin Small Non Leaded Package, 1.3 x 2 mm Body, 0.5 mm Pitch; Halogen-free: TRUE; Packing: Reel; Mounting Technology: Surface Mount; ComponentLink1Description: Manufacturer URL; ComponentLink1URL: http://www.infineon.com/; ComponentLink2Description: Datasheet; ComponentLink2URL: http://www.infineon.com/dgdl/BGA231N7_v1.pdf?folderId=db3a30431f848401011fcbf2ab4c04c4&fileId=db3a30432f69f146012f78199f332d8d; ComponentLink3Description: Package Specification; ComponentLink3URL: http://www.infineon.com/dgdl/TSNP-7-1-Package_Overview.pdf?folderId=db3a304327b89750012805e1379a6124&fileId=db3a30433a047ba0013a1d721fb55b20
footprint INF-TSNP-7-1_V (SON, 6-Leads, Body 2x1.3mm, Pitch 0.5mm)
pins: 1 PON (in) "Power on control", 2 AI (in) "LNA input", 3 BIAS (in) "DC bias", 4 NC "not connected", 5 AO (out) "LNA output", 6 VCC (power) "DC Supply", 7 GND (power) "RF and DC ground"

## BGA416
designator U?
RF Cascode Amplifier, DC-3 GHz, 23 dB Gain, SOT143-4-1, Green; Manufacturer: Infineon; PartNumber: BGA416; F (typ): 1.3 dB; Gain (typ): 23 dB; Green: yes; I (typ): 5.5 mA; P-1dB (in): -3; DatasheetVersion: Rev. 2.1; PackageReference: SOT143-4-1; PackageDescription: 4-Pin Small Outline Transistor Package, 1.3 x 2.9 mm Body; Supplier 1: Mouser; Supplier Part Number 1: N/A; Frequency (f): DC-3 GHz; Mounting Technology: Surface Mount; ComponentLink1Description: Manufacturer URL; ComponentLink1URL: http://www.infineon.com/; ComponentLink2Description: Datasheet; ComponentLink2URL: http://www.infineon.com/dgdl/BGA416.pdf?folderId=db3a30431441fb5d0114b654e6581730&fileId=db3a304314dca389011541880d641635&location=en.Products.RF.RF_MMIC.CATV___Broadband_Amplifier.DATASHEET.BGA416.pdf; ComponentLink3Description: Package Specification; ComponentLink3URL: http://www.infineon.com/dgdl/SOT143-Package_Overview.pdf?folderId=db3a30431936bc4b011952ce8b1b3bed&fileId=db3a30431936bc4b011952df42203c0c
footprint INF-SOT143-4-1_V (SOT143, 4-Leads, Body 2.9x1.3 mm)
pins: 1 GND (power), 2 RFIN (in), 3 GND (power), 4 RFOUT (out)

## BGA420
designator U?
Si-MMIC-Amplifier in SIEGET 25-Technologie, DC-3 GHz, 13 dB Gain, SOT343, Green; Manufacturer: Infineon; PartNumber: BGA420; F (typ): 2.2 dB; Gain (typ): 13 dB; Green: yes; I (typ): 6.7 mA; P-1dB (in): -1; DatasheetVersion: Jul-2011; PackageReference: SOT343; PackageDescription: 4-Pin Small Outline Transistor Package, 1.25 x 2 mm Body; Supplier 1: Mouser; Supplier Part Number 1: N/A; Frequency (f): DC-3 GHz; Halogen-free: yes; Mounting Technology: Surface Mount; ComponentLink1Description: Manufacturer URL; ComponentLink1URL: http://www.infineon.com/; ComponentLink2Description: Datasheet; ComponentLink2URL: http://www.infineon.com/dgdl/bga420.pdf?folderId=db3a30431441fb5d0114b654e6581730&fileId=db3a304314dca3890115418cec781637&location=en.Products.RF.RF_MMIC.CATV___Broadband_Amplifier.DATASHEET.bga420.pdf; ComponentLink3Description: Package Specification; ComponentLink3URL: http://www.infineon.com/dgdl/SOT343-Package_Overview.pdf?folderId=db3a30431936bc4b0119535155343cba&fileId=db3a30431936bc4b0119535a9f393cd3
footprint INF-SOT343_V (SOT343, 4-Leads, Body 2x1.25 mm)
pins: 1 IN (in), 2 GND (power), 3 OUT (out), 4 VD (power)

## BGA427
designator U?
Si-MMIC-Amplifier in SIEGET 25-Technologie, DC-3 GHz, 20 dB Gain, SOT343, Green; Manufacturer: Infineon; PartNumber: BGA427; F (typ): 2.2 dB; Gain (typ): 20 dB; Green: yes; I (typ): 9.5 mA; P-1dB (in): -3; DatasheetVersion: Sep-2011; PackageReference: SOT343; PackageDescription: 4-Pin Small Outline Transistor Package, 1.25 x 2 mm Body; Supplier 1: Mouser; Supplier Part Number 1: N/A; Frequency (f): DC-3 GHz; Halogen-free: yes; Mounting Technology: Surface Mount; ComponentLink1Description: Manufacturer URL; ComponentLink1URL: http://www.infineon.com/; ComponentLink2Description: Datasheet; ComponentLink2URL: http://www.infineon.com/dgdl/bga427.pdf?folderId=db3a30431441fb5d0114b654e6581730&fileId=db3a304314dca3890115418dca4d1638&location=en.Products.RF.RF_MMIC.CATV___Broadband_Amplifier.DATASHEET.bga427.pdf; ComponentLink3Description: Package Specification; ComponentLink3URL: http://www.infineon.com/dgdl/SOT343-Package_Overview.pdf?folderId=db3a30431936bc4b0119535155343cba&fileId=db3a30431936bc4b0119535a9f393cd3
footprint INF-SOT343_V (SOT343, 4-Leads, Body 2x1.25 mm)
pins: 1 IN (in), 2 GND (power), 3 +V (power), 4 OUT (out)

## BGA428
designator U?
Gain and PCS Low Noise Amplifier, 1550 - 1615 MHz, 20 dB Gain, SOT363, Green; Manufacturer: Infineon; PartNumber: BGA428; F (typ): 1.4 dB; Gain (typ): 20 dB; Green: yes; I (typ): 8.2mA; P-1dB (in): -19; DatasheetVersion: Rev. 2.3; PackageReference: SOT363; PackageDescription: 6-Pin Small Outline Transistor Package, 1.25 x 2 mm Body; Supplier 1: Mouser; Supplier Part Number 1: N/A; Frequency (f): 1550 - 1615 MHz; Halogen-free: yes; Mounting Technology: Surface Mount; ComponentLink1Description: Manufacturer URL; ComponentLink1URL: http://www.infineon.com/; ComponentLink2Description: Datasheet; ComponentLink2URL: http://www.infineon.com/dgdl/BGA428.pdf?folderId=db3a304314dca3890115410a91f9160e&fileId=db3a304314dca389011541135b691615&location=en.Products.RF.RF_MMIC.GPS___GLONASS___COMPASS_LNA.DATASHEET.BGA428.pdf; ComponentLink3Description: Package Specification; ComponentLink3URL: http://www.infineon.com/dgdl/SOT363-Package_Overview.pdf?folderId=db3a30431936bc4b01195360bd8f3cdc&fileId=db3a30431936bc4b0119536b62bf3cf5
footprint INF-SOT363_V (SOT23, 6-Leads, Body 2x1.25 mm, Pitch 0.65 mm)
pins: 1 VCC (power), 2 GND (power), 3 OUT (out), 4 GS (in), 5 GND (power), 6 IN (in)

## BGA524N6
designator U?
Silicon Germanium Low Noise Amplifier for Global Navigation Satellite Systems (GNSS), -40 to 85 degC, TSNP-6, Reel, Green; Manufacturer: Infineon; PartNumber: BGA524N6; F (typ): 0.55 dB; Frequency: 1550 to 1615 MHz; Gain (typ): 19.6 dB; Green: TRUE; I (typ): 2.5 mA; P-1dB (in): -12; DatasheetVersion: Rev. 3.0; PackageVersion: Jan-13; PackageReference: TSNP-6-2; PackageDescription: 6-Pin Thin Small Non Leaded Package, 1.1 x 0.7 mm Body, 0.4 mm Pitch; Halogen-free: TRUE; Packing: Reel; Mounting Technology: Surface Mount; ComponentLink1Description: Manufacturer URL; ComponentLink1URL: http://www.infineon.com/; ComponentLink2Description: Datasheet; ComponentLink2URL: http://www.infineon.com/dgdl/BGA524N6.pdf?folderId=db3a30431f848401011fcbf2ab4c04c4&fileId=db3a304344e406b50144e44dfad302b9; ComponentLink3Description: Package Specification; ComponentLink3URL: http://www.infineon.com/dgdl/TSNP-6-2-Package_Overview.pdf?folderId=db3a304327b89750012805e1379a6124&fileId=db3a30433c6612b1013c6bcb02293ba1
footprint INF-TSNP-6-2_V (TSNP, 6-Leads, Body 1.1x0.7mm, Pitch 0.4mm)
pins: 1 GND (power) "Ground", 2 VCC (power) "DC supply", 3 AO (out) "LNA output", 4 GND (power) "Ground", 5 AI (in) "LNA input", 6 PON (in) "Power on control"

## BGA612
designator U?
Silicon Germanium Broadband MMIC Amplifier, DC-6 GHz, 16 dB Gain, SOT343, Green; Manufacturer: Infineon; PartNumber: BGA612; F (typ): 2.35 dB; Gain (typ): 16 dB; Green: yes; I (typ): 20 mA; P-1dB (in): +7; DatasheetVersion: Rev. 2.1; PackageReference: SOT343; PackageDescription: 4-Pin Small Outline Transistor Package, 1.25 x 2 mm Body; Supplier 1: Mouser; Supplier Part Number 1: N/A; Frequency (f): DC-6 GHz; Halogen-free: yes; Mounting Technology: Surface Mount; ComponentLink1Description: Manufacturer URL; ComponentLink1URL: http://www.infineon.com/; ComponentLink2Description: Datasheet; ComponentLink2URL: http://www.infineon.com/dgdl/BGA612.pdf?folderId=db3a30431441fb5d0114b654e6581730&fileId=db3a304314dca3890115418eaa5b1639&location=en.Products.RF.RF_MMIC.CATV___Broadband_Amplifier.DATASHEET.BGA612.pdf; ComponentLink3Description: Package Specification; ComponentLink3URL: http://www.infineon.com/dgdl/SOT343-Package_Overview.pdf?folderId=db3a30431936bc4b0119535155343cba&fileId=db3a30431936bc4b0119535a9f393cd3
footprint INF-SOT343_V (SOT343, 4-Leads, Body 2x1.25 mm)
pins: 1 IN (in), 2 GND (power), 3 OUT (out), 4 GND (power)

## BGA614
designator U?
Silicon Germanium Broadband MMIC Amplifier, DC-6 GHz, 17 dB Gain, SOT343, Green; Manufacturer: Infineon; PartNumber: BGA614; F (typ): 2.3 dB; Gain (typ): 17 dB; Green: yes; I (typ): 40 mA; P-1dB (in): +12; DatasheetVersion: Rev. 2.1; PackageReference: SOT343; PackageDescription: 4-Pin Small Outline Transistor Package, 1.25 x 2 mm Body; Supplier 1: Mouser; Supplier Part Number 1: N/A; Frequency (f): DC-6 GHz; Halogen-free: yes; Mounting Technology: Surface Mount; ComponentLink1Description: Manufacturer URL; ComponentLink1URL: http://www.infineon.com/; ComponentLink2Description: Datasheet; ComponentLink2URL: http://www.infineon.com/dgdl/BGA614.pdf?folderId=db3a30431441fb5d0114b654e6581730&fileId=db3a304314dca3890115418ffd35163a&location=en.Products.RF.RF_MMIC.CATV___Broadband_Amplifier.DATASHEET.BGA614.pdf; ComponentLink3Description: Package Specification; ComponentLink3URL: http://www.infineon.com/dgdl/SOT343-Package_Overview.pdf?folderId=db3a30431936bc4b0119535155343cba&fileId=db3a30431936bc4b0119535a9f393cd3
footprint INF-SOT343_V (SOT343, 4-Leads, Body 2x1.25 mm)
pins: 1 IN (in), 2 GND (power), 3 OUT (out), 4 GND (power)

## BGA616
designator U?
Silicon Germanium Broadband MMIC Amplifier, DC-6 GHz, 17.5 dB Gain, SOT343, Green; Manufacturer: Infineon; PartNumber: BGA616; F (typ): 2.9 dB; Gain (typ): 17.5 dB; Green: yes; I (typ): 60 mA; P-1dB (in): +18; DatasheetVersion: Rev. 2.1; PackageReference: SOT343; PackageDescription: 4-Pin Small Outline Transistor Package, 1.25 x 2 mm Body; Supplier 1: Mouser; Supplier Part Number 1: N/A; Frequency (f): DC-6 GHz; Halogen-free: yes; Mounting Technology: Surface Mount; ComponentLink1Description: Manufacturer URL; ComponentLink1URL: http://www.infineon.com/; ComponentLink2Description: Datasheet; ComponentLink2URL: http://www.infineon.com/dgdl/BGA616.pdf?folderId=db3a30431441fb5d0114b654e6581730&fileId=db3a304314dca3890115419102bb163b&location=en.Products.RF.RF_MMIC.CATV___Broadband_Amplifier.DATASHEET.BGA616.pdf; ComponentLink3Description: Package Specification; ComponentLink3URL: http://www.infineon.com/dgdl/SOT343-Package_Overview.pdf?folderId=db3a30431936bc4b0119535155343cba&fileId=db3a30431936bc4b0119535a9f393cd3
footprint INF-SOT343_V (SOT343, 4-Leads, Body 2x1.25 mm)
pins: 1 IN (in), 2 GND (power), 3 OUT (out), 4 GND (power)

## BGA622
designator U?
Silicon Germanium Wide Band Low Noise Amplifier with 2 kV ESD Protection, 12 dB Gain, SOT343, Green; Manufacturer: Infineon; PartNumber: BGA622; F (typ): 1.2 dB; Gain (typ): 12 dB; Green: yes; I (typ): 5.8 mA; P-1dB (in): -12; P-1dB (out): 0.5 dBm; DatasheetVersion: Rev. 2.2; PackageReference: SOT343; PackageDescription: 4-Pin Small Outline Transistor Package, 1.25 x 2 mm Body; Supplier 1: Mouser; Supplier Part Number 1: N/A; Halogen-free: yes; Mounting Technology: Surface Mount; ComponentLink1Description: Manufacturer URL; ComponentLink1URL: http://www.infineon.com/; ComponentLink2Description: Datasheet; ComponentLink2URL: http://www.infineon.com/dgdl/bga622.pdf?folderId=db3a304314dca3890115411845531618&fileId=db3a304314dca38901154118f2b31619&location=en.Products.RF.RF_MMIC.WLAN___WiMAX_LNA.DATASHEET.bga622.pdf; ComponentLink3Description: Package Specification; ComponentLink3URL: http://www.infineon.com/dgdl/SOT343-Package_Overview.pdf?folderId=db3a30431936bc4b0119535155343cba&fileId=db3a30431936bc4b0119535a9f393cd3
footprint INF-SOT343_V (SOT343, 4-Leads, Body 2x1.25 mm)
pins: 1 IN (in), 2 GND (power), 3 OUT (out), 4 VCC (power)

## BGA622L7
designator AR?
Silicon Germanium Wide Band Low Noise Amplifier with 2 kV ESD Protection, TSLP-7-1, Reel, Green; Manufacturer: Infineon; PartNumber: BGA622L7; Green: TRUE; DatasheetVersion: Rev. 2.2; PackageReference: TSLP-7-1; PackageDescription: 7-Pin Thin Small Leadless Package, 1.3 x 2 mm Body, 0.5 mm Pitch; Supplier 1: Mouser; Supplier Part Number 1: N/A; Halogen-free: TRUE; Mounting Technology: Surface Mount; ComponentLink1Description: Manufacturer URL; ComponentLink1URL: http://www.infineon.com/; ComponentLink2Description: Datasheet; ComponentLink2URL: http://www.infineon.com/dgdl/bga622l7.pdf?folderId=db3a304314dca38901154129d9cc161e&fileId=db3a304314dca3890115412e4eb1161f&location=en.Products.RF.RF_MMIC.UMTS___LTE_LNA.DATASHEET.bga622l7.pdf; ComponentLink3Description: Package Specification; ComponentLink3URL: http://www.infineon.com/dgdl/TSLP-7-1-Package_Overview.pdf?folderId=db3a304319c6f18c011a059ccd723666&fileId=db3a304319c6f18c011a05a5fc4c367f
footprint INF-TSLP-7-1_V (TSLP, 7-Leads, Body 2x1.3mm)
part A pins: 2 IN (in) "RF input", 4 VCC (power) "DC supply", 5 OUT (out) "RF output", 7 GND (power) "Ground"
part B pins: 1 NC "Not connected", 3 NC "Not connected", 6 NC "Not connected"

## BGA628L7
designator U?
Silicon Germanium Wide Band Low Noise Amplifier, 16 dB Gain, TSLP-7-6, Green; Manufacturer: Infineon; PartNumber: BGA628L7; F (typ): 1 dB; Gain (typ): 16 dB; Green: yes; I (typ): 5.8 mA; P-1dB (in): -17.5; P-1dB (out): -1.5 dBm; DatasheetVersion: Rev. 1.1; PackageReference: TSLP-7-6; PackageDescription: 7-Pin Thin Small Leadless Package, 1.26 x 1.4 mm Body, 0.48 mm Pitch; Halogen-free: yes; Mounting Technology: Surface Mount; ComponentLink1Description: Manufacturer URL; ComponentLink1URL: http://www.infineon.com/; ComponentLink2Description: Datasheet; ComponentLink2URL: http://www.infineon.com/dgdl/bga628l7_preliminary.pdf?folderId=db3a30431f848401011fcbf2ab4c04c4&fileId=db3a304325afd6e00126286eb3622229&location=en.Products.RF.RF_MMIC.WLAN___WiMAX_LNA.DATASHEET.bga628l7_preliminary.pdf; ComponentLink3Description: Package Specification; ComponentLink3URL: http://www.infineon.com/cms/packages/SMD_-_Surface_Mounted_Devices/TSLP-TSSLP/TSLP-07-06.html?__locale=en
footprint INF-TSLP-7-6_V (SON, 6-Leads, Body 1.4x1.26 mm, Pitch 0.48 mm, Thermal Pad 1.20x0.54 mm)
part A pins: 2 IN (in) "RF input", 4 VCC (power) "DC supply", 5 OUT (out) "RF output", 7 GND (power) "Ground"
part B pins: 1 NC "Not connected", 3 NC "Not connected", 6 NC "Not connected"

## BGA711N7
designator U?
SiGe Bipolar 3 G / 3.5 G / 4 G Single-Band LNA, TSNP-7-1, Reel, Green; Manufacturer: Infineon; PartNumber: BGA711N7; F (typ): 1.1 dB; Frequency Hz: 2100 MHz; Gain (typ): 17 dB; Green: TRUE; I (typ): 3.6 mA; P-1dB (in): -8; DatasheetVersion: Rev. 3.1; PackageReference: TSNP-7-1; PackageDescription: 7-Pin Thin Small Non Leaded Package, 1.3 x 2 mm Body, 0.5 mm Pitch; Halogen-free: TRUE; Packing: Reel; Mounting Technology: Surface Mount; ComponentLink1Description: Manufacturer URL; ComponentLink1URL: http://www.infineon.com/; ComponentLink2Description: Datasheet; ComponentLink2URL: http://www.infineon.com/dgdl/bga711n7_31.pdf?folderId=db3a30431f848401011fcbf2ab4c04c4&fileId=db3a30433db6f09f013dcac61185543e; ComponentLink3Description: Package Specification; ComponentLink3URL: http://www.infineon.com/dgdl/TSNP-7-1-Package_Overview.pdf?folderId=db3a304327b89750012805e1379a6124&fileId=db3a30433a047ba0013a1d721fb55b20
footprint INF-TSNP-7-1_V (SON, 6-Leads, Body 2x1.3mm, Pitch 0.5mm)
pins: 1 RFIN (in) "LNA input", 2 VEN (in) "Band select control", 3 VGS (in) "Gain step control", 4 VCC (power) "Supply voltage", 5 RREF "Bias current reference resistor (high gain mode)", 6 RFOUT (out) "LNA output", 7 GND (power) "Package paddle; ground connection for LNA and control circuitry"

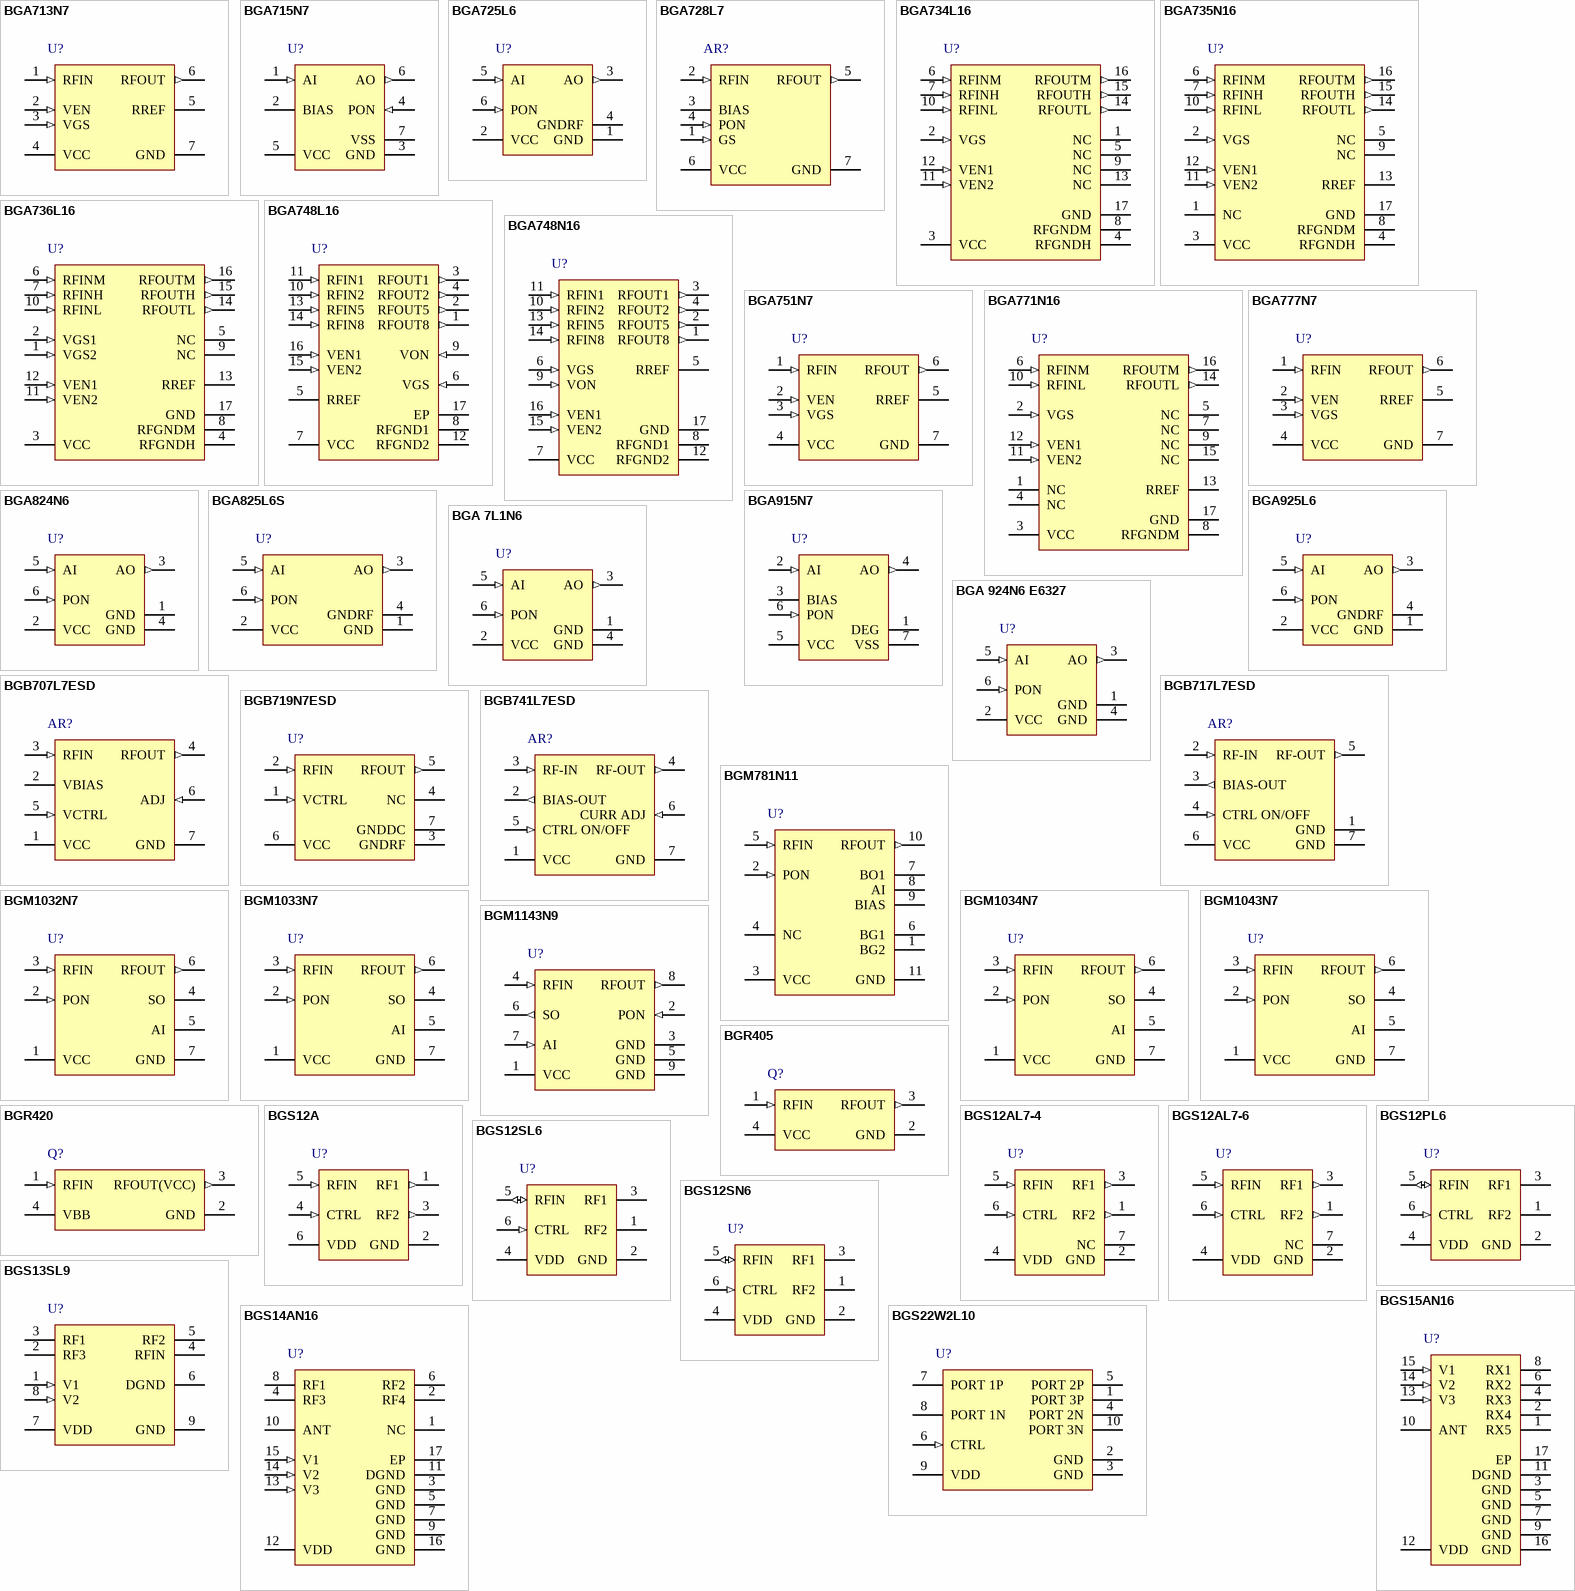
[diagram p6: symbols BGA713N7 to BGS22W2L10]

## BGA713N7
designator U?
Single-Band UMTS LNA (700, 800 MHz), TSNP-7-1, Reel, Green; Manufacturer: Infineon; PartNumber: BGA713N7; F (typ): 1.1 dB; Frequency Hz: 700 MHz; Gain (typ): 15.5 dB; Green: TRUE; I (typ): 4.8 mA; P-1dB (in): -7; DatasheetVersion: Rev. 3.1; PackageReference: TSNP-7-1; PackageDescription: 7-Pin Thin Small Non Leaded Package, 1.3 x 2 mm Body, 0.5 mm Pitch; Halogen-free: TRUE; Packing: Reel; Mounting Technology: Surface Mount; ComponentLink1Description: Manufacturer URL; ComponentLink1URL: http://www.infineon.com/; ComponentLink2Description: Datasheet; ComponentLink2URL: http://www.infineon.com/dgdl/bga713N7_31.pdf?folderId=db3a30431f848401011fcbf2ab4c04c4&fileId=db3a30433db6f09f013dcac8bc2f5457; ComponentLink3Description: Package Specification; ComponentLink3URL: http://www.infineon.com/dgdl/TSNP-7-1-Package_Overview.pdf?folderId=db3a304327b89750012805e1379a6124&fileId=db3a30433a047ba0013a1d721fb55b20
footprint INF-TSNP-7-1_V (SON, 6-Leads, Body 2x1.3mm, Pitch 0.5mm)
pins: 1 RFIN (in) "LNA input", 2 VEN (in) "Band select control", 3 VGS (in) "Gain step control", 4 VCC (power) "Supply voltage", 5 RREF "Bias current reference resistor (high gain mode)", 6 RFOUT (out) "LNA output", 7 GND (power) "Package paddle; ground connection for LNA and control circuitry"

## BGA715N7
designator U?
Silicon Germanium Low Noise Amplifier for Global Navigation Satellite Systems (GNSS), TSNP-7-1, Reel, Green; Manufacturer: Infineon; PartNumber: BGA715N7; F (typ): 0.75 dB; Frequency Hz: 1550 - 1615 MHz; Gain (typ): 20 dB; Green: TRUE; I (typ): 3.3 mA; P-1dB (in): -15.5; DatasheetVersion: Rev. 1.0; PackageReference: TSNP-7-1; PackageDescription: 7-Pin Thin Small Non Leaded Package, 1.3 x 2 mm Body, 0.5 mm Pitch; Halogen-free: TRUE; Packing: Reel; Mounting Technology: Surface Mount; ComponentLink1Description: Manufacturer URL; ComponentLink1URL: http://www.infineon.com/; ComponentLink2Description: Datasheet; ComponentLink2URL: http://www.infineon.com/dgdl/BGA715N7.pdf?folderId=db3a30431f848401011fcbf2ab4c04c4&fileId=db3a30433db6f09f013dcae19fc754fb; ComponentLink3Description: Package Specification; ComponentLink3URL: http://www.infineon.com/dgdl/TSNP-7-1-Package_Overview.pdf?folderId=db3a304327b89750012805e1379a6124&fileId=db3a30433a047ba0013a1d721fb55b20
footprint INF-TSNP-7-1_V (SON, 6-Leads, Body 2x1.3mm, Pitch 0.5mm)
pins: 1 AI (in) "LNA input", 2 BIAS "DC bias", 3 GND (power) "RF ground", 4 PON (in) "Power on control", 5 VCC (power) "DC supply", 6 AO (out) "LNA output", 7 VSS (power) "DC ground"

## BGA725L6
designator U?
Silicon Germanium Low Noise Amplifier for Global Navigation Satellite Systems (GNSS), 1550 - 1615 MHz, 20 dB Gain, TSLP-6-2, Green; Manufacturer: Infineon; PartNumber: BGA725L6; F (typ): 0.65 dB; Gain (typ): 20 dB; Green: yes; I (typ): 3.6 mA; P-1dB (in): -16; DatasheetVersion: Rev. 2.0; PackageReference: TSLP-6-2; PackageDescription: 6-Pin Thin Small Leadless Package, 0.7 x 1.1 mm Body, 0.4 mm Pitch; Frequency (f): 1550 - 1615 MHz; Mounting Technology: Surface Mount; ComponentLink1Description: Manufacturer URL; ComponentLink1URL: http://www.infineon.com/; ComponentLink2Description: Datasheet; ComponentLink2URL: http://www.infineon.com/dgdl/BGA725L6_V2+0.pdf?folderId=db3a30431f848401011fcbf2ab4c04c4&fileId=db3a30433784a0400137ef9a4d341f23; ComponentLink3Description: Package Specification; ComponentLink3URL: http://www.infineon.com/dgdl/TSLP-6-2-Package-Overview.pdf?folderId=db3a304331f858f40131ffb9669c4315&fileId=db3a3043338c8ac80133b1ca9c866256
footprint INF-TSLP-6-2_V (TSLP, 6-Leads, Body 0.7x1.1 mm)
pins: 1 GND (power) "General ground", 2 VCC (power) "DC supply", 3 AO (out) "LNA output", 4 GNDRF (power) "LNA RF ground", 5 AI (in) "LNA input", 6 PON (in) "Power on control"

## BGA728L7
designator AR?
Broadband Low Noise Amplifier for Portable and Mobile TV Applications, TSLP-7-1, Reel, Green; Manufacturer: Infineon; PartNumber: BGA728L7; Green: TRUE; DatasheetVersion: Rev. 2.0; PackageReference: TSLP-7-1; PackageDescription: 7-Pin Thin Small Leadless Package, 1.3 x 2 mm Body, 0.5 mm Pitch; Halogen-free: TRUE; Mounting Technology: Surface Mount; ComponentLink1Description: Manufacturer URL; ComponentLink1URL: http://www.infineon.com/; ComponentLink2Description: Datasheet; ComponentLink2URL: http://www.infineon.com/dgdl/bga728l7.pdf?folderId=db3a30431ce5fb52011d23bc9bee187a&fileId=db3a30431ce5fb52011d23be3a3b187b&location=en.Products.RF.RF_MMIC.Mobile_TV_LNA.DATASHEET.bga728l7.pdf; ComponentLink3Description: Package Specification; ComponentLink3URL: http://www.infineon.com/dgdl/TSLP-7-1-Package_Overview.pdf?folderId=db3a304319c6f18c011a059ccd723666&fileId=db3a304319c6f18c011a05a5fc4c367f
footprint INF-TSLP-7-1_V (TSLP, 7-Leads, Body 2x1.3mm)
pins: 1 GS (in) "High-gain / Low-gain control", 2 RFIN (in) "RF input", 3 BIAS "Bias voltage", 4 PON (in) "Power on / off control", 5 RFOUT (out) "RF output", 6 VCC (power) "Supply voltage", 7 GND (power) "DC/RF ground"